# Altium footprint library HDRV4W35P125_1X4_665X340X430P.PcbLib: 1 footprints
Each footprint in its own frame and in the unit in brackets; x right, y up, seen from the top. Pads: shape width x height; smd on the part's side, far side on the other; paste and mask are expansions set on the pad; w line width, h text height; cw(c..) or ccw(c..) is an arc to the next point about the centre after c.
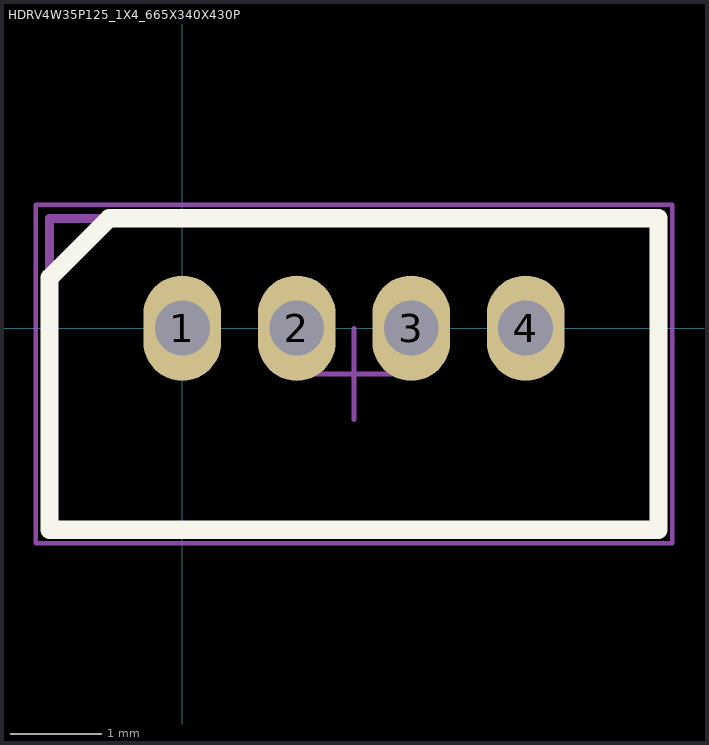
[diagram p0: the footprint, top view; thin cyan lines are the x and y axes]

## HDRV4W35P125_1X4_665X340X430P [mm]
pads (4):
  oval 0.85x1.15 hole 0.6 unplated: 1(0,0) 2(1.25,0) 3(2.5,0) 4(3.75,0)
Top Overlay:
  lines w0.2: -1.45,-2.2 5.2,-2.2 5.2,1.2 3.537,1.2 -0.8,1.2 -1.45,0.55 -1.45,-2.2
Mechanical 13:
  lines w0.1: -1.45,-2.2 -1.45,1.2 5.2,1.2 5.2,-2.2 -1.45,-2.2
Mechanical 15:
  lines w0.05: 1.375,-0.5 2.375,-0.5 ; 1.875,-1 1.875,0 ; -1.6,-2.35 5.35,-2.35 5.35,1.35 -1.6,1.35 -1.6,-2.35
3D body "DF13-4P-1.25DSA.stp": height 4.3, standoff -2.3, extent -1.45,-2.2 5.2,1.2